# EAGLE library part MIC29302WU-TR (library MIC29302WU)
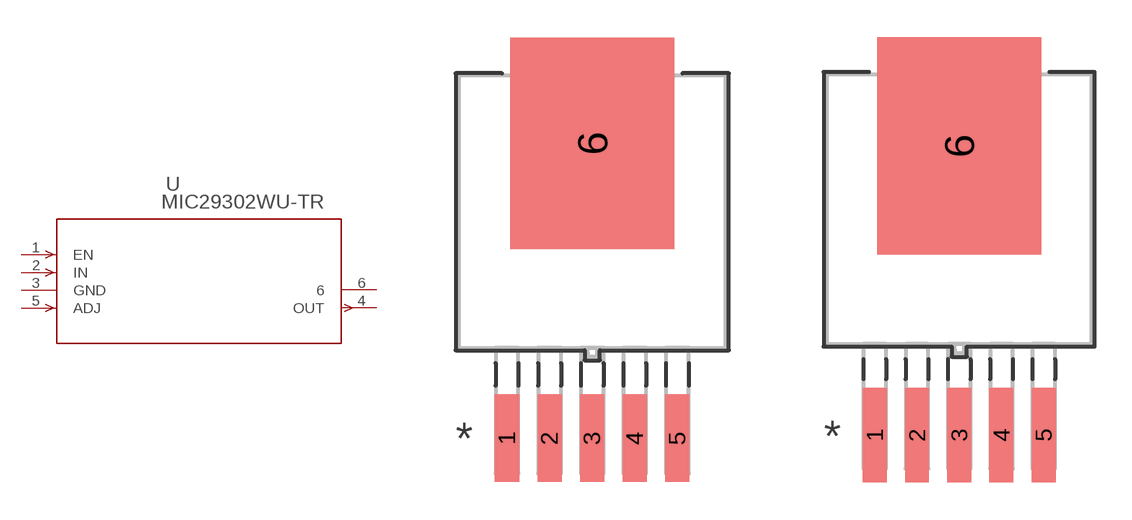
[diagram p0: symbol with the pads of TO-263-5_MCH; footprints TO-263-5_MCH, TO-263-5_MCH-M]

Designator prefix U

## MIC29302WU-TR (COPYRIGHT: Copyright (C) 2024 Ultra Librarian. All rights reserved.; MANUFACTURER_PART_NUMBER: MIC29302WU-TR; MFR_NAME: Microchip)  [TO-263-5_MCH]
1  EN  in
2  IN  in
3  GND  pwr
4  OUT  out
5  ADJ  in
6  6  pas

## MIC29302WU-TRTO-263-5_MCH-M (COPYRIGHT: Copyright (C) 2024 Ultra Librarian. All rights reserved.; MANUFACTURER_PART_NUMBER: MIC29302WU-TR; MFR_NAME: Microchip)  [TO-263-5_MCH-M]
Pads as for TO-263-5_MCH

## MIC29302WU-TRTO-263-5_MCH-L (COPYRIGHT: Copyright (C) 2024 Ultra Librarian. All rights reserved.; MANUFACTURER_PART_NUMBER: MIC29302WU-TR; MFR_NAME: Microchip)  [TO-263-5_MCH-L]
Pads as for TO-263-5_MCH

## Footprint TO-263-5_MCH (pad centres in mm)
smd 0.965 x 3.505: 1 -3.404,-9.055; 2 -1.702,-9.055; 3 0,-9.055; 4 1.702,-9.055; 5 3.404,-9.055
smd 6.553 x 8.458: 6 0,2.743

## Footprint TO-263-5_MCH-M (pad centres in mm)
smd 0.965 x 3.81: 1 -3.404,-9.106; 2 -1.702,-9.106; 3 0,-9.106; 4 1.702,-9.106; 5 3.404,-9.106
smd 6.604 x 8.763: 6 0,2.565

## Footprint TO-263-5_MCH-L (pad centres in mm)
smd 0.914 x 3.2: 1 -3.404,-9.004; 2 -1.702,-9.004; 3 0,-9.004; 4 1.702,-9.004; 5 3.404,-9.004
smd 6.502 x 8.153: 6 0,2.565